# Altium footprint library Hats_Sheilds1.PcbLib: 2 footprints
Each footprint in its own frame and in the unit in brackets; x right, y up, seen from the top. Pads: shape width x height; smd on the part's side, far side on the other; paste and mask are expansions set on the pad; w line width, h text height; cw(c..) or ccw(c..) is an arc to the next point about the centre after c.
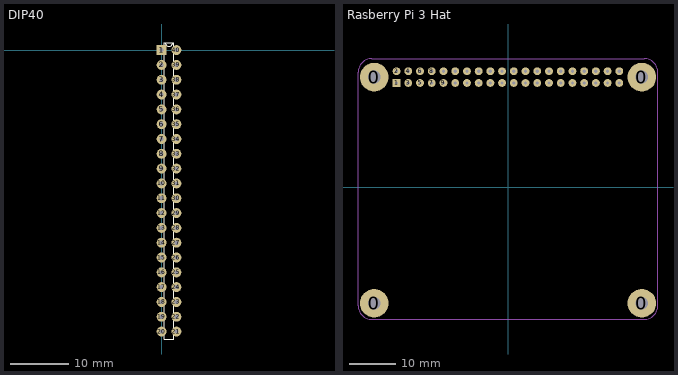
[diagram p0: the footprints below, top view; thin cyan lines are the x and y axes]

## DIP40 [mm]
pads (40):
  rect 1.7x1.7 hole 0.71: 1(0,0)
  round 1.7 hole 0.71: 2(0,-2.54) 3(0,-5.08) 4(0,-7.62) 5(0,-10.16) 6(0,-12.7) 7(0,-15.24) 8(0,-17.78) 9(0,-20.32) 10(0,-22.86) 11(0,-25.4) 12(0,-27.94) 13(0,-30.48) 14(0,-33.02) 15(0,-35.56) 16(0,-38.1) 17(0,-40.64) 18(0,-43.18) 19(0,-45.72) 20(0,-48.26) 21(2.54,-48.26) 22(2.54,-45.72) 23(2.54,-43.18) 24(2.54,-40.64) 25(2.54,-38.1) 26(2.54,-35.56) 27(2.54,-33.02) 28(2.54,-30.48) 29(2.54,-27.94) 30(2.54,-25.4) 31(2.54,-22.86) 32(2.54,-20.32) 33(2.54,-17.78) 34(2.54,-15.24) 35(2.54,-12.7) 36(2.54,-10.16) 37(2.54,-7.62) 38(2.54,-5.08) 39(2.54,-2.54) 40(2.54,0)
Top Overlay:
  lines w0.2: 0.455,-49.53 2.085,-49.53 2.085,1.27 0.635,1.27 ccw(c1.27,1.27) 1.905,1.27 0.455,1.27 0.455,-49.53

## Rasberry Pi 3 Hat [mm]
pads (44):
  round 6.2 hole 2.75: 0(-29,-25.135) 0(-29,23.865) 0(29,-25.135) 0(29,23.865)
  rect 1.7x1.7 hole 0.71: 1(-24.14,22.595)
  round 1.7 hole 0.71: 2(-24.14,25.135) 3(-21.6,22.595) 4(-21.6,25.135) 5(-19.06,22.595) 6(-19.06,25.135) 7(-16.52,22.595) 8(-16.52,25.135) 9(-13.98,22.595) 10(-13.98,25.135) 11(-11.44,22.595) 12(-11.44,25.135) 13(-8.9,22.595) 14(-8.9,25.135) 15(-6.36,22.595) 16(-6.36,25.135) 17(-3.82,22.595) 18(-3.82,25.135) 19(-1.28,22.595) 20(-1.28,25.135) 21(1.26,22.595) 22(1.26,25.135) 23(3.8,22.595) 24(3.8,25.135) 25(6.34,22.595) 26(6.34,25.135) 27(8.88,22.595) 28(8.88,25.135) 29(11.42,22.595) 30(11.42,25.135) 31(13.96,22.595) 32(13.96,25.135) 33(16.5,22.595) 34(16.5,25.135) 35(19.04,22.595) 36(19.04,25.135) 37(21.58,22.595) 38(21.58,25.135) 39(24.12,22.595) 40(24.12,25.135)
Board Outline:
  circle w0.013: c29,-25.135 r1.375
  circle w0.013: c29,23.865 r1.375
  circle w0.013: c-29,-25.135 r1.375
  circle w0.013: c-29,23.865 r1.375
  lines w0.013: -32.5,-25.635 ccw(c-29.5,-25.635) -29.5,-28.635 29.5,-28.635 ccw(c29.5,-25.635) 32.5,-25.635 32.5,24.865 ccw(c29.5,24.865) 29.5,27.865 -29.5,27.865 ccw(c-29.5,24.865) -32.5,24.865 -32.5,-25.635
3D body "RASPBERRY PI 3.STEP": height 3.7, standoff -13.8, extent -32.5,-30.95 54.5,27.4